# EAGLE library part BNO055 (library SmartWatch)
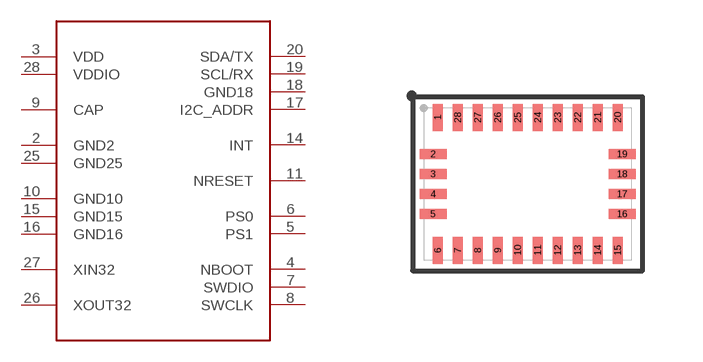
[diagram p3: symbol with the pads of LGA28; footprint LGA28]

Designator prefix -

## BNO055  [LGA28]
2  GND2
3  VDD
4  NBOOT
5  PS1
6  PS0
7  SWDIO
8  SWCLK
9  CAP
10  GND10
11  NRESET
14  INT
15  GND15
16  GND16
17  I2C_ADDR
18  GND18
19  SCL/RX
20  SDA/TX
25  GND25
26  XOUT32
27  XIN32
28  VDDIO

## Footprint LGA28 (pad centres in mm)
smd 0.25 x 0.675: 1 -2.25,1.663; 6 -2.25,-1.663; 7 -1.75,-1.663; 8 -1.25,-1.663; 9 -0.75,-1.663; 10 -0.25,-1.663; 11 0.25,-1.663; 12 0.75,-1.663; 13 1.25,-1.663; 14 1.75,-1.663; 15 2.25,-1.663; 20 2.25,1.663; 21 1.75,1.663; 22 1.25,1.663; 23 0.75,1.663; 24 0.25,1.663; 25 -0.25,1.663; 26 -0.75,1.663; 27 -1.25,1.663; 28 -1.75,1.663
smd 0.675 x 0.25: 2 -2.362,0.75; 3 -2.362,0.25; 4 -2.362,-0.25; 5 -2.362,-0.75; 16 2.362,-0.75; 17 2.362,-0.25; 18 2.362,0.25; 19 2.362,0.75